# EAGLE library part LT3758A (library dubec)
High Input Voltage, Boost, Flyback, SEPIC and Inverting Controller
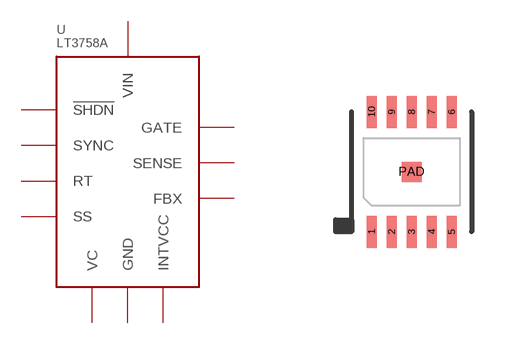
[diagram p36: symbol with the pads of DFN-10; footprint DFN-10]

Designator prefix -

## LT3758AIDD (DIGIKEY_PART_#: LT3758AIDD#PBF-ND; MANUFACTURER: Linear Technology; MFG_PART_#: LT3758AIDD#PBF; TEMP: -40°C ~ 125°C (TJ); USD: 90.50/25)  [DFN-10]
1  VC  pas
2  FBX  in
3  SS  pas
4  RT  in
5  SYNC  in
6  SENSE  pas
7  GATE  pas
8  INTVCC  pas
9  !SHDN  in
10  VIN  pas
PAD  GND  pas

## Footprint DFN-10 (pad centres in mm)
smd 0.25 x 0.8: 1 -1,-1.5; 2 -0.5,-1.5; 3 0,-1.5; 4 0.5,-1.5; 5 1,-1.5; 6 1,1.5; 7 0.5,1.5; 8 0,1.5; 9 -0.5,1.5; 10 -1,1.5
smd 0.5 x 0.5: PAD 0,0